# Altium schematic symbol library SBCLib.SchLib: 99 symbols (part 2 of 2)
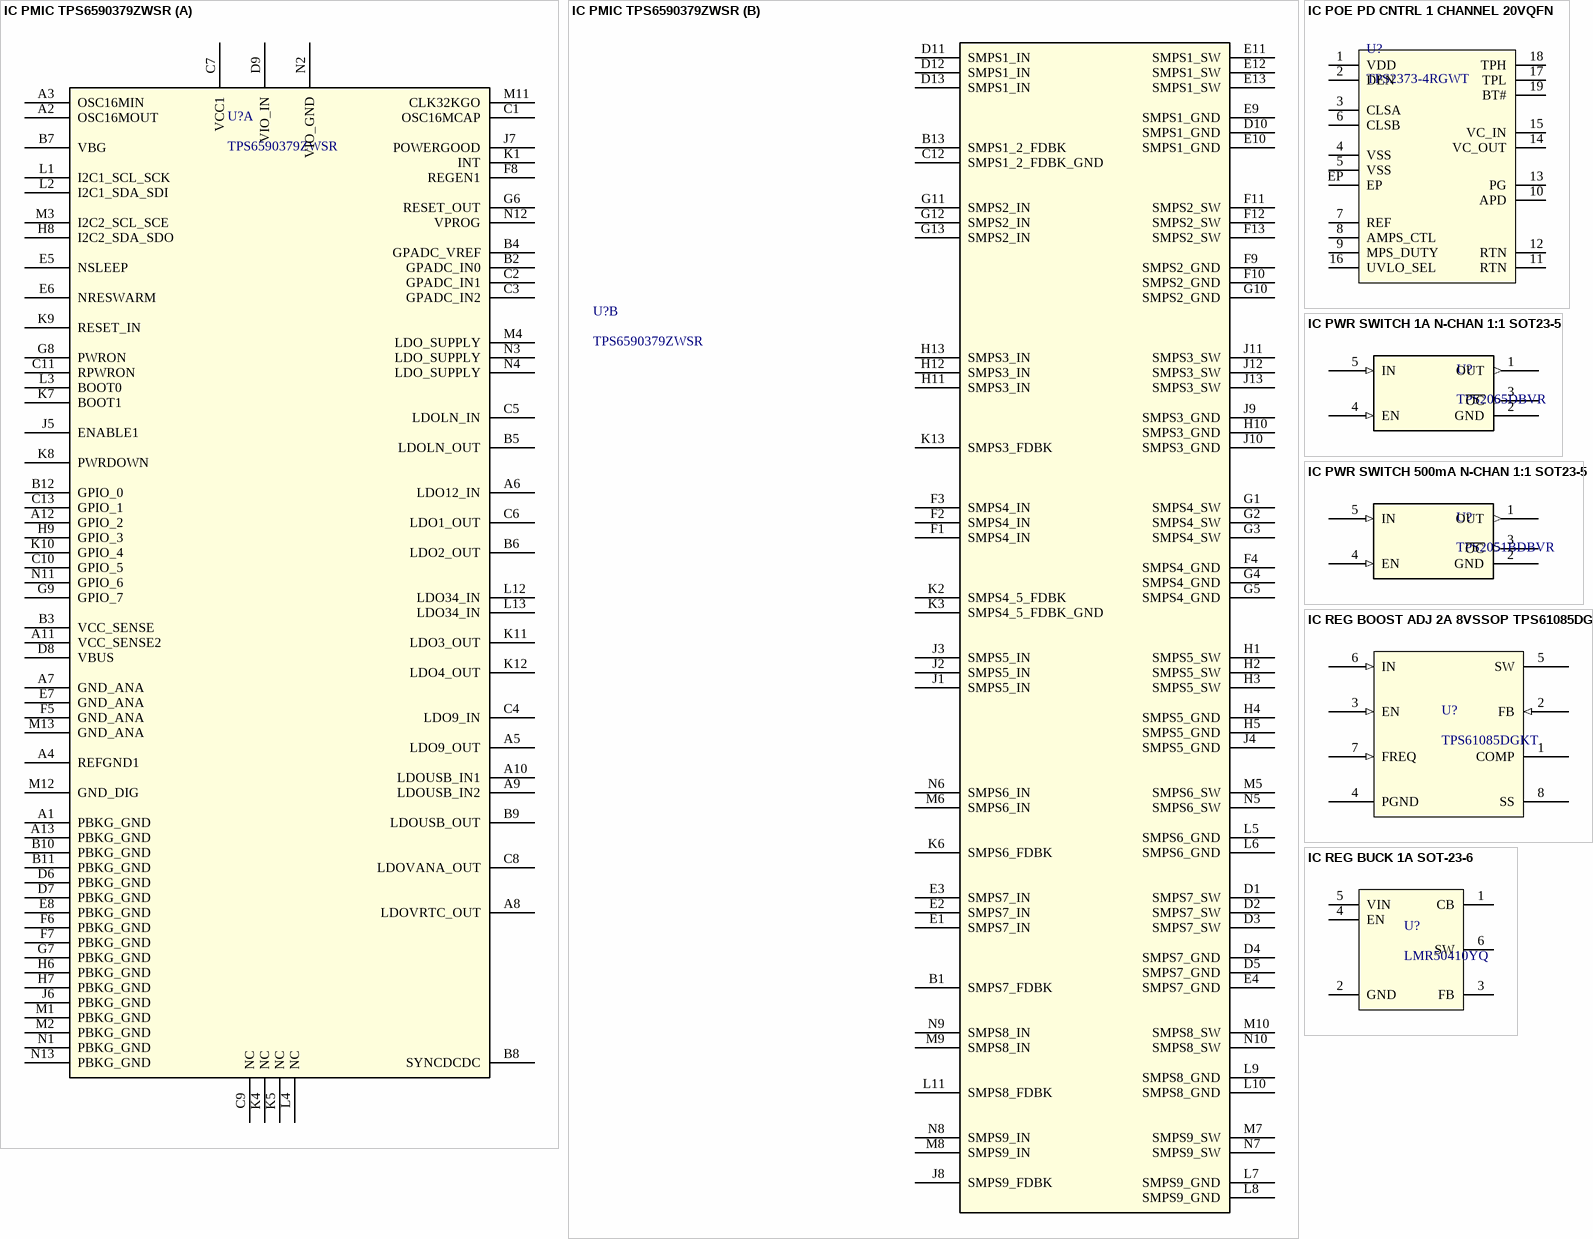
[diagram p10: symbols IC PMIC TPS6590379ZWSR to IC REG BUCK 1A SOT-23-6]

## IC REG BUCK 1A SOT-23-6
designator U?, comment LMR50410YQ
IC REG BUCK 1A SOT-23-6; 1. Manufacturer: Texas Instruments; 2. Manufacturer Part Number: LMR50410YQDBVRQ1; 3. Date Modified: 20201126
footprint SOT-23-6
pins: 1 CB, 2 GND, 3 FB, 4 EN, 5 VIN, 6 SW

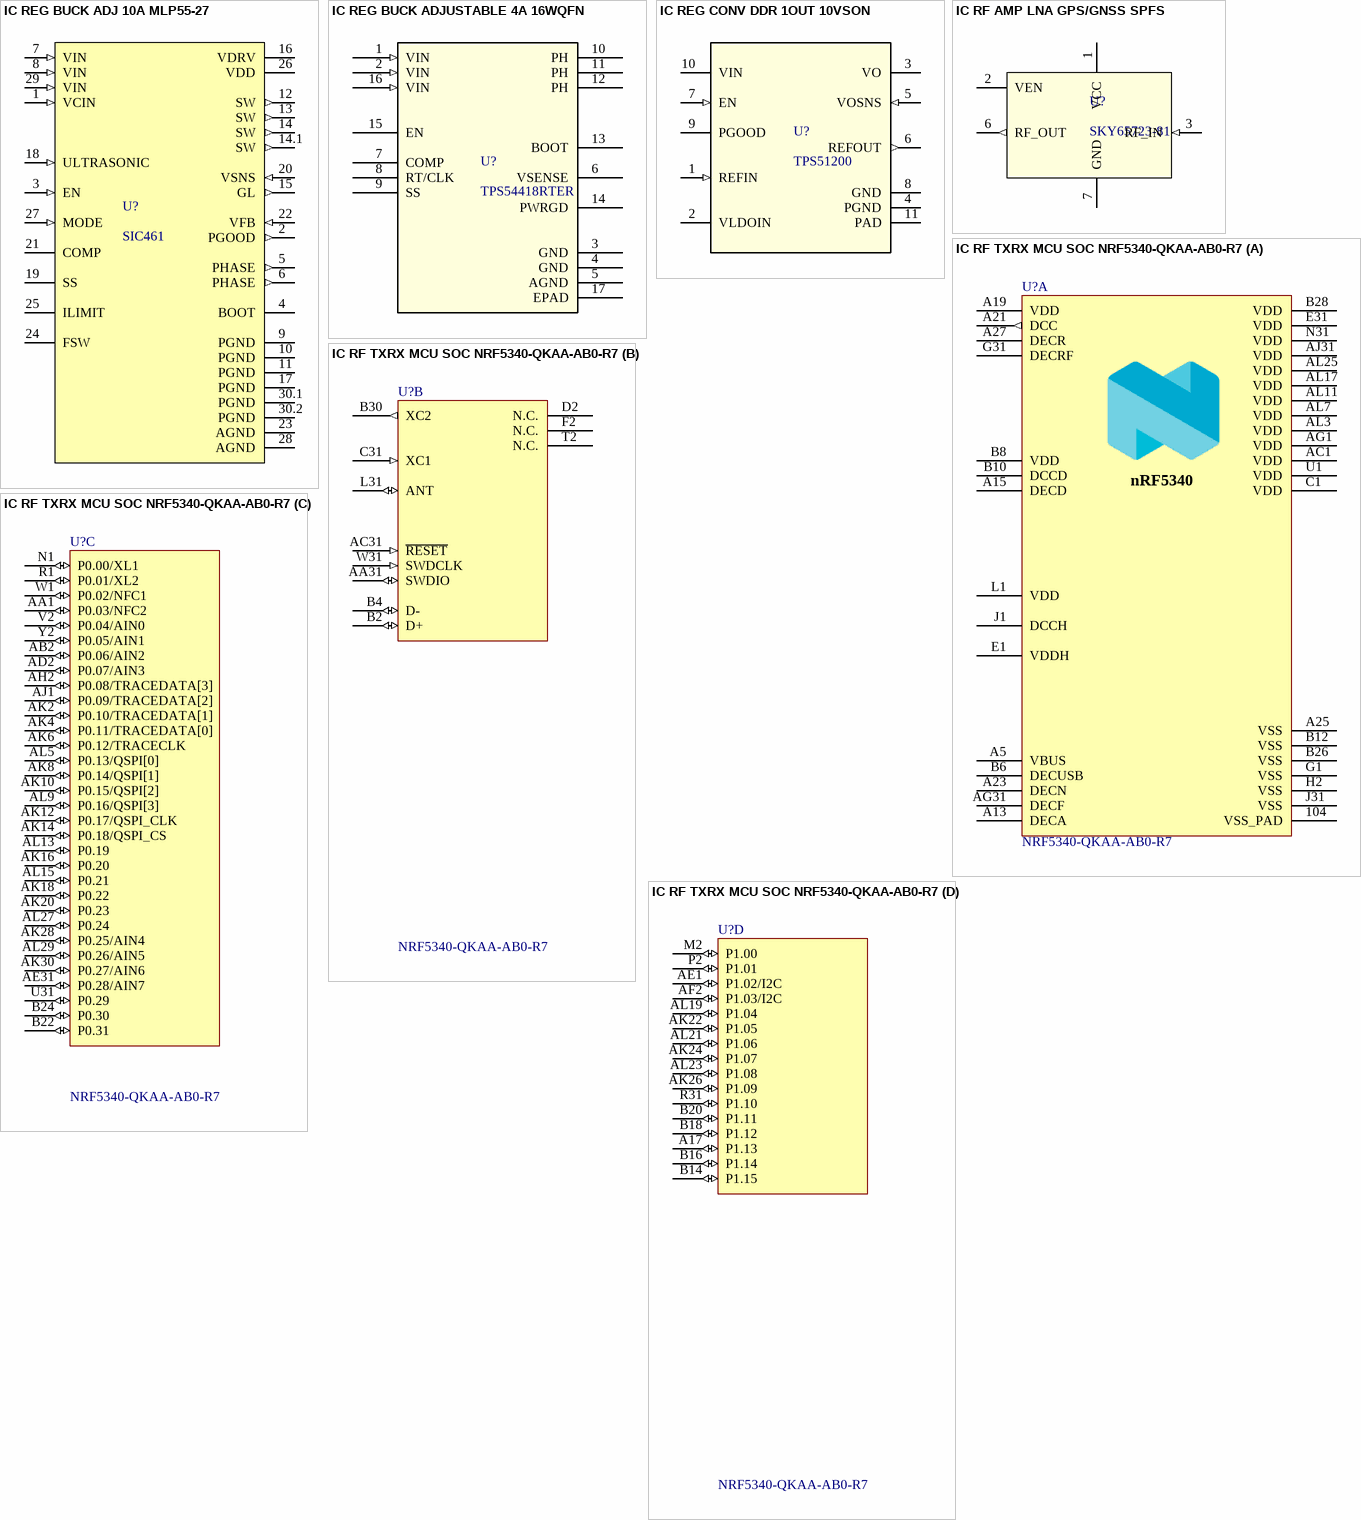
[diagram p8: symbols IC REG BUCK ADJ 10A MLP55-27 to IC RF TXRX MCU SOC NRF5340-QKAA-AB0-R7]

## IC REG BUCK ADJ 10A MLP55-27
designator U?, comment SIC461
IC REG BUCK ADJ 10A MLP55-27; 1. Manufacturer: Vishay Siliconix; 2. Manufacturer Part Number: SIC461ED-T1-GE3; 3. Date Modified: 20200822
footprint PowerPAK MLP55-27L
pins: 1 VCIN (in), 2 PGOOD (out), 3 EN (in), 4 BOOT, 5 PHASE (out), 6 PHASE (out), 7 VIN (in), 8 VIN (in), 9 PGND (power), 10 PGND (power), 11 PGND (power), 12 SW (out), 13 SW (out), 14 SW (out), 14.1 SW (out), 15 GL (out), 16 VDRV (power), 17 PGND (power), 18 ULTRASONIC (in), 19 SS, 20 VSNS (in), 21 COMP, 22 VFB (in), 23 AGND (power), 24 FSW, 25 ILIMIT, 26 VDD (power), 27 MODE (in), 28 AGND (power), 29 VIN (in), 30.1 PGND (power), 30.2 PGND (power)

## IC REG BUCK ADJUSTABLE 4A 16WQFN
designator U?, comment TPS54418RTER
IC REG BUCK ADJUSTABLE 4A 16WQFN; 1. Manufacturer: Texas Instruments; 2. Manufacturer Part Number: TPS54418RTER; 3. Date Modified: 20200909
footprint WFQFN-16 EP 3x3
pins: 1 VIN (in), 2 VIN (in), 3 GND (power), 4 GND (power), 5 AGND (power), 6 VSENSE, 7 COMP, 8 RT/CLK, 9 SS, 10 PH, 11 PH, 12 PH, 13 BOOT, 14 PWRGD (power), 15 EN, 16 VIN (in), 17 EPAD

## IC REG CONV DDR 1OUT 10VSON
designator U?, comment TPS51200
IC REG CONV DDR 1OUT 10VSON; 1. Manufacturer: Texas Instruments; 2. Manufacturer Part Number: TPS51200DRCR; 3. Date Modified: 20200810
footprint VSON-10
pins: 1 REFIN (in), 2 VLDOIN (power), 3 VO (power), 4 PGND (power), 5 VOSNS (in), 6 REFOUT (out), 7 EN (in), 8 GND (power), 9 PGOOD (oc), 10 VIN (power), 11 PAD (power)

## IC RF AMP LNA GPS/GNSS SPFS
designator U?, comment SKY65723-81
IC RF AMP LNA GPS/GNSS SPFS; 1. Manufacturer: Skyworks Solutions Inc.; 2. Manufacturer Part Number: SKY65723-81; 3. Date Modified: 20201122
footprint DFN-6 (SKY65723)
pins: 1 VCC, 2 VEN, 3 RF_IN (in), 6 RF_OUT (out), 7 GND

## IC RF TXRX MCU SOC NRF5340-QKAA-AB0-R7
designator U?, comment NRF5340-QKAA-AB0-R7
Multi-protocol Bluetooth Low Energy, IEEE 802.15.4, ANT and 2.4GHz proprietary system-on-chip; 1. Manufacturer: Nordic Semiconductor; 2. Manufacturer Part Number: NRF5340-QKAA-AB0-R7; 3. Date Modified: 20201117
footprint aQFN-94 (NRF5340)
part A pins: 104 VSS_PAD (power), A5 VBUS (power), A13 DECA (power), A15 DECD (power), A19 VDD (power), A21 DCC (out), A23 DECN (power), A25 VSS (power), A27 DECR (power), AC1 VDD (power), AG1 VDD (power), AG31 DECF (power), AJ31 VDD (power), AL3 VDD (power), AL7 VDD (power), AL11 VDD (power), AL17 VDD (power), AL25 VDD (power), B6 DECUSB (power), B8 VDD (power), B10 DCCD (power), B12 VSS (power), B26 VSS (power), B28 VDD (power), C1 VDD (power), E1 VDDH (power), E31 VDD (power), G1 VSS (power), G31 DECRF (power), H2 VSS (power), J1 DCCH (power), J31 VSS (power), L1 VDD (power), N31 VDD (power), U1 VDD (power)
part B pins: AA31 SWDIO (io), AC31 ~{RESET} (in), B2 D+ (io), B4 D- (io), B30 XC2 (out), C31 XC1 (in), D2 N.C., F2 N.C., L31 ANT (io), T2 N.C., W31 SWDCLK (in)
part C pins: AA1 P0.03/NFC2 (io), AB2 P0.06/AIN2 (io), AD2 P0.07/AIN3 (io), AE31 P0.28/AIN7 (io), AH2 P0.08/TRACEDATA[3] (io), AJ1 P0.09/TRACEDATA[2] (io), AK2 P0.10/TRACEDATA[1] (io), AK4 P0.11/TRACEDATA[0] (io), AK6 P0.12/TRACECLK (io), AK8 P0.14/QSPI[1] (io), AK10 P0.15/QSPI[2] (io), AK12 P0.17/QSPI_CLK (io), AK14 P0.18/QSPI_CS (io), AK16 P0.20 (io), AK18 P0.22 (io), AK20 P0.23 (io), AK28 P0.25/AIN4 (io), AK30 P0.27/AIN6 (io), AL5 P0.13/QSPI[0] (io), AL9 P0.16/QSPI[3] (io), AL13 P0.19 (io), AL15 P0.21 (io), AL27 P0.24 (io), AL29 P0.26/AIN5 (io), B22 P0.31 (io), B24 P0.30 (io), N1 P0.00/XL1 (io), R1 P0.01/XL2 (io), U31 P0.29 (io), V2 P0.04/AIN0 (io), W1 P0.02/NFC1 (io), Y2 P0.05/AIN1 (io)
part D pins: A17 P1.13 (io), AE1 P1.02/I2C (io), AF2 P1.03/I2C (io), AK22 P1.05 (io), AK24 P1.07 (io), AK26 P1.09 (io), AL19 P1.04 (io), AL21 P1.06 (io), AL23 P1.08 (io), B14 P1.15 (io), B16 P1.14 (io), B18 P1.12 (io), B20 P1.11 (io), M2 P1.00 (io), P2 P1.01 (io), R31 P1.10 (io)
part A text: nRF5340

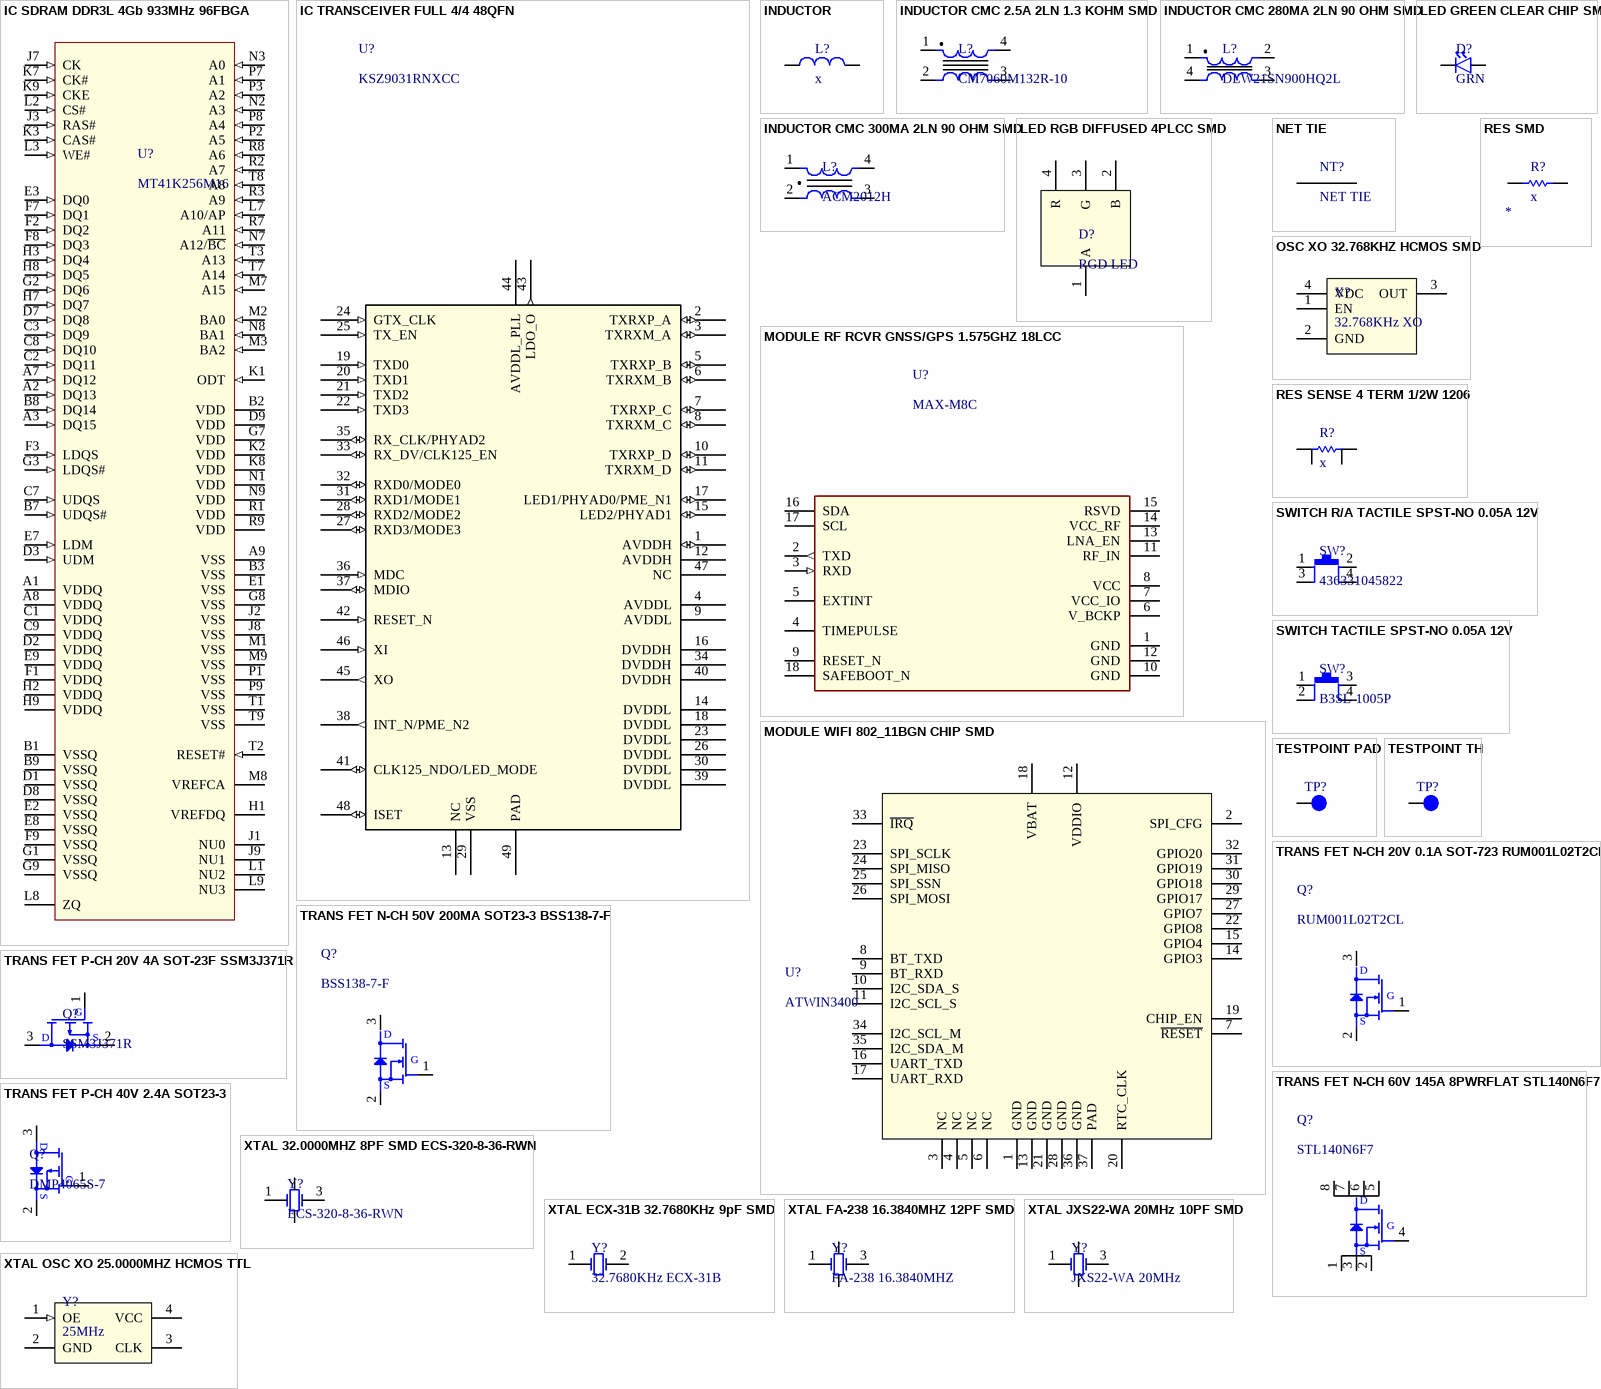
[diagram p9: symbols IC SDRAM DDR3L 4Gb 933MHz 96FBGA to XTAL OSC XO 25.0000MHZ HCMOS TTL]

## IC SDRAM DDR3L 4Gb 933MHz 96FBGA
designator U?, comment MT41K256M16
IC SDRAM DDR3L 4Gb 933MHz 96FBGA; 1. Manufacturer: Micron Technology Inc.; 2. Manufacturer Part Number: MT41K256M16TW-107 XIT:P TR; 3. Date Modified: 20200809
footprint FBGA-96
ibis MT41K256M16TW (Model Description)
pins: A1 VDDQ, A2 DQ13 (in), A3 DQ15 (in), A7 DQ12 (in), A8 VDDQ, A9 VSS, B1 VSSQ, B2 VDD, B3 VSS, B7 UDQS# (in), B8 DQ14 (in), B9 VSSQ, C1 VDDQ, C2 DQ11 (in), C3 DQ9 (in), C7 UDQS (in), C8 DQ10 (in), C9 VDDQ, D1 VSSQ, D2 VDDQ, D3 UDM (in), D7 DQ8 (in), D8 VSSQ, D9 VDD, E1 VSS, E2 VSSQ, E3 DQ0 (in), E7 LDM (in), E8 VSSQ, E9 VDDQ, F1 VDDQ, F2 DQ2 (in), F3 LDQS (in), F7 DQ1 (in), F8 DQ3 (in), F9 VSSQ, G1 VSSQ, G2 DQ6 (in), G3 LDQS# (in), G7 VDD, G8 VSS, G9 VSSQ, H1 VREFDQ, H2 VDDQ, H3 DQ4 (in), H7 DQ7 (in), H8 DQ5 (in), H9 VDDQ, J1 NU0, J2 VSS, J3 RAS# (in), J7 CK (in), J8 VSS, J9 NU1, K1 ODT (in), K2 VDD, K3 CAS# (in), K7 CK# (in), K8 VDD, K9 CKE (in), L1 NU2, L2 CS# (in), L3 WE# (in), L7 A10/AP (in), L8 ZQ, L9 NU3, M1 VSS, M2 BA0 (in), M3 BA2 (in), M7 A15 (in), M8 VREFCA, M9 VSS, N1 VDD, N2 A3 (in), N3 A0 (in), N7 A12/~{BC} (in), N8 BA1 (in), N9 VDD, P1 VSS, P2 A5 (in), P3 A2 (in), P7 A1 (in), P8 A4 (in), P9 VSS, R1 VDD, R2 A7 (in), R3 A9 (in), R7 A11 (in), R8 A6 (in), R9 VDD, T1 VSS, T2 RESET# (in), T3 A13 (in), T7 A14 (in), T8 A8 (in), T9 VSS

## IC TRANSCEIVER FULL 4/4 48QFN
designator U?, comment KSZ9031RNXCC
IC TRANSCEIVER FULL 4/4 48QFN; 1. Manufacturer: Microchip Technology; 2. Manufacturer Part Number: KSZ9031RNXCC-TR; 3. Date Modified: 20200831
footprint QFN-48 7x7
pins: 1 AVDDH (io), 2 TXRXP_A (io), 3 TXRXM_A (io), 4 AVDDL (power), 5 TXRXP_B (io), 6 TXRXM_B (io), 7 TXRXP_C (io), 8 TXRXM_C (io), 9 AVDDL (power), 10 TXRXP_D (io), 11 TXRXM_D (io), 12 AVDDH (power), 13 NC, 14 DVDDL (power), 15 LED2/PHYAD1 (io), 16 DVDDH (power), 17 LED1/PHYAD0/PME_N1 (io), 18 DVDDL (power), 19 TXD0 (in), 20 TXD1 (in), 21 TXD2 (in), 22 TXD3 (in), 23 DVDDL (power), 24 GTX_CLK (in), 25 TX_EN (in), 26 DVDDL (power), 27 RXD3/MODE3 (io), 28 RXD2/MODE2 (io), 29 VSS (power), 30 DVDDL (power), 31 RXD1/MODE1 (io), 32 RXD0/MODE0 (io), 33 RX_DV/CLK125_EN (io), 34 DVDDH (power), 35 RX_CLK/PHYAD2 (io), 36 MDC (in), 37 MDIO (io), 38 INT_N/PME_N2 (out), 39 DVDDL (power), 40 DVDDH (power), 41 CLK125_NDO/LED_MODE (io), 42 RESET_N (in), 43 LDO_O (out), 44 AVDDL_PLL (power), 45 XO (out), 46 XI (in), 47 NC, 48 ISET (io), 49 PAD

## INDUCTOR
designator L?, comment x
Generic Inductor; 1. Manufacturer: *; 2. Manufacturer Part Number: *; 3. Date Modified: *
footprint INDUCTOR IHLP1212BZER1R0M11
footprint INDUCTOR CDPH4D19FNP
footprint IND SMD 0805 (LI0805H151R-10)
footprint IND SMD 0603
footprint INDUCTOR SRN8040-1R0Y
footprint INDUCTOR SRP1265A-1R5M
footprint IND SMD 0806
footprint INDUCTOR SRN3015-220M
pins: 1, 2

## INDUCTOR CMC 2.5A 2LN 1.3 KOHM SMD
designator L?, comment CM7060M132R-10
INDUCTOR CMC 2.5A 2LN 1.3 KOHM SMD; 1. Manufacturer: Laird-Signal Integrity Products; 2. Manufacturer Part Number: CM7060M132R-10; 3. Date Modified: 20200824
footprint CM7060
pins: 1, 2, 3, 4

## INDUCTOR CMC 280MA 2LN 90 OHM SMD
designator L?, comment DLW21SN900HQ2L
CMC 280MA INDUCTOR CMC 280MA 2LN 90 OHM SMD2LN 90 OHM SMD; 1. Manufacturer: Murata Electronics; 2. Manufacturer Part Number: DLW21SN900HQ2L; 3. Date Modified: 20200824
footprint DLW21SN
pins: 1, 2, 3, 4

## INDUCTOR CMC 300MA 2LN 90 OHM SMD
designator L?, comment ACM2012H
INDUCTOR CMC 300MA 2LN 90 OHM SMD; 1. Manufacturer: TDK Corporation; 2. Manufacturer Part Number: ACM2012H-900-2P-T05; 3. Date Modified: 20200910
footprint INDUCTOR CMC ACM2012H-T05
pins: 1, 2, 3, 4

## LED GREEN CLEAR CHIP SMD
designator D?, comment GRN
LED GREEN CLEAR CHIP SMD; 1. Manufacturer: Kingbright; 2. Manufacturer Part Number: APHHS1005CGCK; 3. Date Modified: 20200824
footprint SMD LED 0402
pins: A, K

## LED RGB DIFFUSED 4PLCC SMD
designator D?, comment RGD LED
LED RGB DIFFUSED 4PLCC SMD; 1. Manufacturer: Broadcom Limited; 2. Manufacturer Part Number: ASMB-MTB0-0A3A2; 3. Date Modified: 20201125
footprint PLCC-4 LED ASMB-MTB0-0A3A2
pins: 1 A, 2 B, 3 G, 4 R

## MODULE RF RCVR GNSS/GPS 1.575GHZ 18LCC
designator U?, comment MAX-M8C
MODULE RF RCVR GNSS/GPS 1.575GHZ 18LCC; 1. Manufacturer: U-Blox; 2. Manufacturer Part Number: MAX-M8C-0; 3. Date Modified: 20201122
footprint MAX-M8 (u-blox M8 concurrent GNSS modules)
pins: 1 GND, 2 TXD (out), 3 RXD (in), 4 TIMEPULSE, 5 EXTINT, 6 V_BCKP, 7 VCC_IO, 8 VCC, 9 RESET_N, 10 GND, 11 RF_IN, 12 GND, 13 LNA_EN, 14 VCC_RF, 15 RSVD, 16 SDA, 17 SCL, 18 SAFEBOOT_N

## MODULE WIFI 802_11BGN CHIP SMD
designator U?, comment ATWIN3400
Bluetooth, WiFi 802.11b/g/n, Bluetooth v5.0 Transceiver Module 2.412GHz ~ 2.472GHz Integrated, Chip Surface Mount; 1. Manufacturer: Microchip Technology; 2. Manufacturer Part Number: ATWINC3400-MR210CA131-T; 3. Date Modified: 20201122
footprint ATWINC3400-MR210CA
pins: 1 GND, 2 SPI_CFG, 3 NC, 4 NC, 5 NC, 6 NC, 7 ~{RESET}, 8 BT_TXD, 9 BT_RXD, 10 I2C_SDA_S, 11 I2C_SCL_S, 12 VDDIO, 13 GND, 14 GPIO3, 15 GPIO4, 16 UART_TXD, 17 UART_RXD, 18 VBAT, 19 CHIP_EN, 20 RTC_CLK, 21 GND, 22 GPIO8, 23 SPI_SCLK, 24 SPI_MISO, 25 SPI_SSN, 26 SPI_MOSI, 27 GPIO7, 28 GND, 29 GPIO17, 30 GPIO18, 31 GPIO19, 32 GPIO20, 33 ~{IRQ}, 34 I2C_SCL_M, 35 I2C_SDA_M, 36 GND, 37 PAD

## NET TIE
designator NT?  (net tie, no BOM)
1. Manufacturer: *; 2. Manufacturer Part Number: *; 3. Date Modified: *
footprint NET TIE 1MM
pins: 1, 2

## OSC XO 32.768KHZ HCMOS SMD
designator X?, comment 32.768KHz XO
OSC XO 32.768KHZ HCMOS SMD; 1. Manufacturer: Jauch Quartz; 2. Manufacturer Part Number: O 0,032768-JO32-G-1V3-1-T1-LF; 3. Date Modified: 20201122
footprint XTAL OSC 32.768K CMOS
pins: 1 EN, 2 GND, 3 OUT, 4 VDC

## RES SENSE 4 TERM 1/2W 1206
designator R?, comment x
RES SENSE 4 TERM 1/2W 1206; 1. Manufacturer: Ohmite; 2. Manufacturer Part Number: *; 3. Date Modified: 20200805
footprint RES SMD SENSE LVK12
pins: 1, 2, 3, 4

## RES SMD
designator R?, comment x
Generic surface mount resistor; 1. Manufacturer: *; 2. Manufacturer Part Number: *; 3. Date Modified: *; 4. Package: *
footprint SMD RES 0201
footprint SMD RES 0402
footprint SMD RES 0603
footprint SMD RES 2010
pins: 1, 2

## SWITCH R/A TACTILE SPST-NO 0.05A 12V
designator SW?, comment 436331045822
SWITCH R/A TACTILE SPST-NO 0.05A 12V; 1. Manufacturer: Würth Elektronik; 2. Manufacturer Part Number: 436331045822; 3. Date Modified: 20201127
footprint BUTTON 436331045822
pins: 1, 2, 3, 4

## SWITCH TACTILE SPST-NO 0.05A 12V
designator SW?, comment B3SL-1005P
SWITCH TACTILE SPST-NO 0.05A 12V; 1. Manufacturer: Omron Electronics Inc-EMC Div; 2. Manufacturer Part Number: B3SL-1005P; 3. Date Modified: 20200405
footprint BUTTON B3SL
pins: 1, 2, 3, 4

## TESTPOINT PAD
designator TP?, comment TESTPOINT SMD  (value not drawn)  (no BOM)
TESTPOINT SMD PAD; 1. Manufacturer: *; 2. Manufacturer Part Number: *; 3. Date Modified: *
footprint TESTPOINT 0.5mm DIA
footprint TESTPOINT 1mm DIA
pins: 1

## TESTPOINT TH
designator TP?  (value not drawn)
TESTPOINT TH KEYSTONE; 1. Manufacturer: Keystone Electronics; 2. Manufacturer Part Number: 5002; 3. Date Modified: 20200805
footprint TESTPOINT TH
pins: 1

## TRANS FET N-CH 20V 0.1A SOT-723 RUM001L02T2CL
designator Q?, comment RUM001L02T2CL
TRANS FET N-CH 20V 0.1A SOT-723 RUM001L02T2CL; 1. Manufacturer: Rohm Semiconductor; 2. Manufacturer Part Number: RUM001L02T2CL; 3. Date Modified: 20200911
footprint SOT-723
pins: 1 G, 2, 3
text: D; S

## TRANS FET N-CH 50V 200MA SOT23-3 BSS138-7-F
designator Q?, comment BSS138-7-F
TRANS FET N-CH 50V 200MA SOT23-3 BSS138-7-F; 1. Manufacturer: Diodes Incorporated; 2. Manufacturer Part Number: BSS138-7-F; 3. Date Modified: 20201128
footprint SOT-23-3
pins: 1 G, 2, 3
text: D; S

## TRANS FET N-CH 60V 145A 8PWRFLAT STL140N6F7
designator Q?, comment STL140N6F7
TRANS FET N-CH 60V 145A 8PWRFLAT STL140N6F7; 1. Manufacturer: STMicroelectronics; 2. Manufacturer Part Number: STL140N6F7; 3. Date Modified: 20201118
footprint PowerFLAT 5x6
pins: 1 S, 2 S, 3 S, 4 G, 5 D, 6 D, 7 D, 8 D

## TRANS FET P-CH 20V 4A SOT-23F SSM3J371R
designator Q?, comment SSM3J371R
TRANS FET P-CH 20V 4A SOT-23F SSM3J371R; 1. Manufacturer: Toshiba Semiconductor and Storage; 2. Manufacturer Part Number: SSM3J371R,LF; 3. Date Modified: 20200901
footprint SOT-23F-3
pins: 1, 2, 3
text: G; D; S

## TRANS FET P-CH 40V 2.4A SOT23-3
designator Q?, comment DMP4065S-7
TRANS FET P-CH 40V 2.4A SOT23-3; 1. Manufacturer: Diodes Incorporated; 2. Manufacturer Part Number: DMP4065S-7; 3. Date Modified: 20201128
footprint SOT-23-3
pins: 1, 2, 3
text: D; G; S

## XTAL 32.0000MHZ 8PF SMD ECS-320-8-36-RWN
designator Y?, comment ECS-320-8-36-RWN
XTAL 32.0000MHZ 8PF SMD ECS-320-8-36-RWN-TR; 1. Manufacturer: ECS Inc.; 2. Manufacturer Part Number: ECS-320-8-36-RWN-TR; 3. Date Modified: 20201121
footprint XTAL ECX-2236 SERIES
pins: 1, 2, 3, 4

## XTAL ECX-31B 32.7680KHz 9pF SMD
designator Y?, comment 32.7680KHz ECX-31B
XTAL ECX-31B 32.7680KHz 9pF SMD; 1. Manufacturer: ECS Inc.; 2. Manufacturer Part Number: ECS-.327-9-34B-C-TR; 3. Date Modified: 20200812
footprint XTAL ECX-31B
pins: 1, 2

## XTAL FA-238 16.3840MHZ 12PF SMD
designator Y?, comment FA-238 16.3840MHZ
XTAL FA-238 16.3840MHZ 12PF SMD; 1. Manufacturer: EPSON; 2. Manufacturer Part Number: FA-238 16.3840MD30X-W; 3. Date Modified: 20200804
footprint XTAL FA-238
pins: 1, 2, 3, 4

## XTAL JXS22-WA 20MHz 10PF SMD
designator Y?, comment JXS22-WA 20MHz
XTAL JXS22-WA 20MHz 10PF SMD; 1. Manufacturer: Jauch Quartz; 2. Manufacturer Part Number: Q 20,0-JXS22-10-10/15-T1-FU-WA-LF; 3. Date Modified: 20200811
footprint XTAL JXS22-WA
pins: 1, 2, 3, 4

## XTAL OSC XO 25.0000MHZ HCMOS TTL
designator Y?, comment 25MHz
XTAL OSC XO 25.0000MHZ HCMOS TTL; 1. Manufacturer: Abracon LLC; 2. Manufacturer Part Number: ASFL1-25.000MHZ-EC-T; 3. Date Modified: 20200830
footprint XTAL OSC XO 25.0000MHZ HCMOS TTL (ASFL1-25.000MHZ-EC-T)
pins: 1 OE (in), 2 GND, 3 CLK, 4 VCC